# Altium footprint library DO-214AB.PcbLib: 1 footprints
Each footprint in its own frame and in the unit in brackets; x right, y up, seen from the top. Pads: shape width x height; smd on the part's side, far side on the other; paste and mask are expansions set on the pad; w line width, h text height; cw(c..) or ccw(c..) is an arc to the next point about the centre after c.
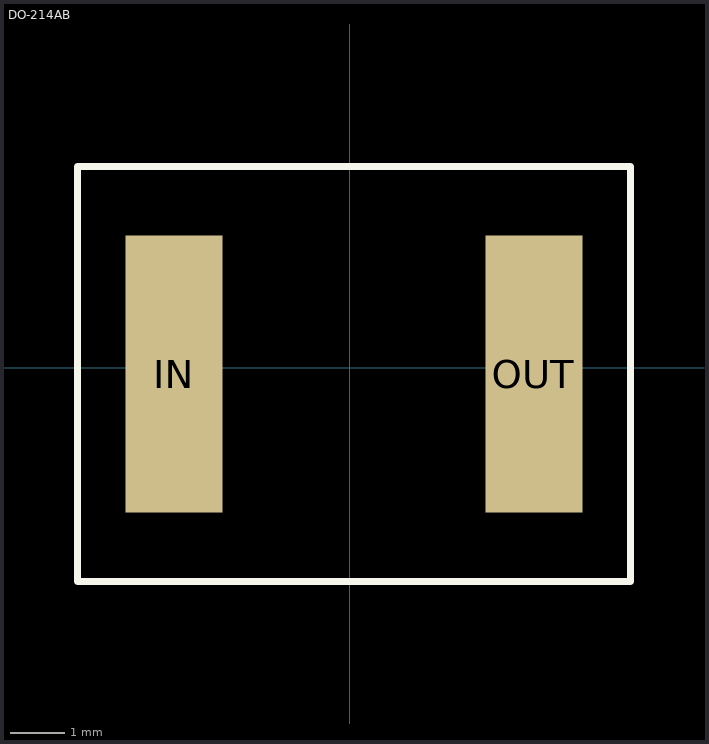
[diagram p0: the footprint, top view; thin cyan lines are the x and y axes]

## DO-214AB [mil]
pads (2):
  rect 70x200 smd: IN(-126.89,-4.41) OUT(133.11,-4.41)
Top Overlay:
  lines w5: -196.89,-154.41 -196.89,145.59 203.11,145.59 203.11,-154.41 -196.89,-154.41